# EAGLE library part INT55MX-90° (library modules)
CT (04/03/2008): make pin numbers visible to make it easier for debug change label of name and value to the correct layers CT (05/03/2008) changing name to int55mx-90°
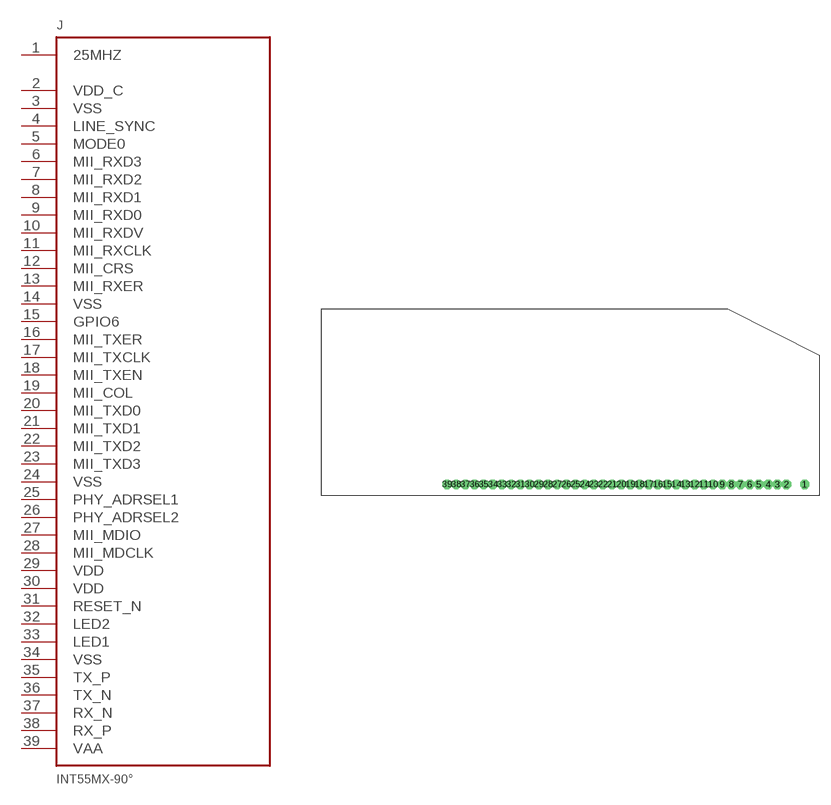
[diagram p3: symbol with the pads of INT55MX-90°; footprint INT55MX-90°]

Designator prefix J

## INT55MX-90°  [INT55MX-90°]
1  25MHZ
2  VDD_C
3  VSS
4  LINE_SYNC
5  MODE0
6  MII_RXD3
7  MII_RXD2
8  MII_RXD1
9  MII_RXD0
10  MII_RXDV
11  MII_RXCLK
12  MII_CRS
13  MII_RXER
14  VSS
15  GPIO6
16  MII_TXER
17  MII_TXCLK
18  MII_TXEN
19  MII_COL
20  MII_TXD0
21  MII_TXD1
22  MII_TXD2
23  MII_TXD3
24  VSS
25  PHY_ADRSEL1
26  PHY_ADRSEL2
27  MII_MDIO
28  MII_MDCLK
29  VDD
30  VDD
31  RESET_N
32  LED2
33  LED1
34  VSS
35  TX_P
36  TX_N
37  RX_N
38  RX_P
39  VAA

## Footprint INT55MX-90° (pad centres in mm)
CT (04/03/2008): changed pin numbers p$n to n CT (05/03/2008): changed name to int55mx-90°
drill 0.8 octagon: 1 -2.064,1.553; 2 -4.604,1.553; 3 -5.874,1.553; 4 -7.144,1.553; 5 -8.414,1.553; 6 -9.694,1.553; 7 -10.964,1.553; 8 -12.234,1.553; 9 -13.504,1.553; 10 -14.774,1.553; 11 -16.044,1.553; 12 -17.314,1.553; 13 -18.584,1.553; 14 -19.854,1.553; 15 -21.124,1.553; 16 -22.394,1.553; 17 -23.664,1.553; 18 -24.944,1.553; 19 -26.214,1.553; 20 -27.484,1.553; 21 -28.754,1.553; 22 -30.024,1.553; 23 -31.294,1.553; 24 -32.564,1.553; 25 -33.834,1.553; 26 -35.104,1.553; 27 -36.374,1.553; 28 -37.644,1.553; 29 -38.914,1.553; 30 -40.194,1.553; 31 -41.464,1.553; 32 -42.734,1.553; 33 -44.004,1.553; 34 -45.274,1.553; 35 -46.544,1.553; 36 -47.814,1.553; 37 -49.084,1.553; 38 -50.354,1.553; 39 -51.624,1.553